# Altium footprint library CurrentMonitor.PcbLib: 1 footprints
Each footprint in its own frame and in the unit in brackets; x right, y up, seen from the top. Pads: shape width x height; smd on the part's side, far side on the other; paste and mask are expansions set on the pad; w line width, h text height; cw(c..) or ccw(c..) is an arc to the next point about the centre after c.
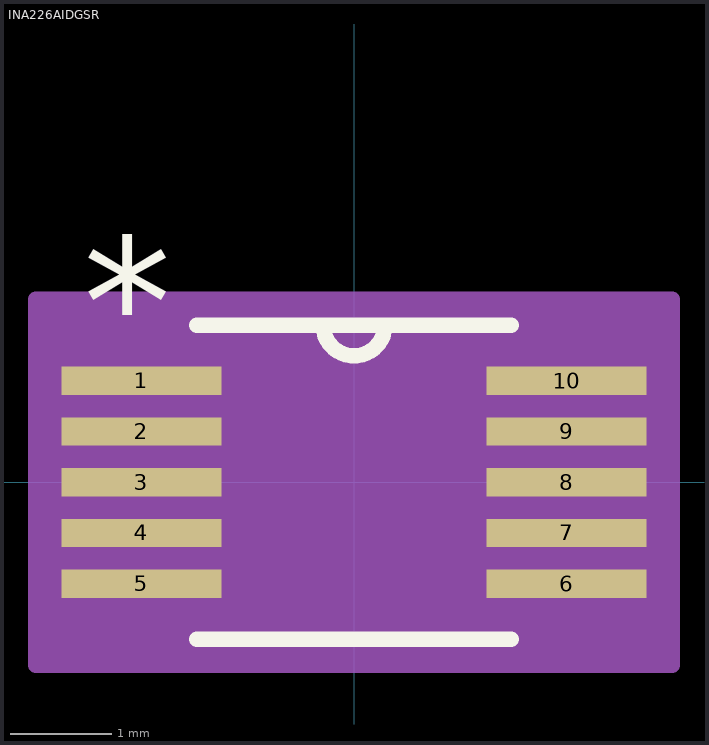
[diagram p0: the footprint, top view; thin cyan lines are the x and y axes]

## INA226AIDGSR [mil]
pads (10):
  rect 62x11 smd paste-31 mask-31: 1(-82.5,39.37) 2(-82.5,19.68) 3(-82.5,0) 4(-82.5,-19.68) 5(-82.5,-39.37) 6(82.5,-39.37) 7(82.5,-19.68) 8(82.5,0) 9(82.5,19.68) 10(82.5,39.37)
Top Overlay:
  lines w6: -61,-61 61,-61 ; -61,61 61,61 ; -12,61 ccw(c0,61) 12,61
  text "*" at -105,45.37 h50
Mechanical 13:
  lines w1: -12,61 ccw(c0,61) 12,61 ; -99.5,-44.87 -61,-44.87 -61,-33.87 -99.5,-33.87 -99.5,-44.87 ; -99.5,-25.18 -61,-25.18 -61,-14.19 -99.5,-14.19 -99.5,-25.18 ; -99.5,-5.5 -61,-5.5 -61,5.5 -99.5,5.5 -99.5,-5.5 ; -99.5,14.19 -61,14.19 -61,25.18 -99.5,25.18 -99.5,14.19 ; -99.5,33.87 -61,33.87 -61,44.87 -99.5,44.87 -99.5,33.87 ; -61,-61 -61,61 61,61 61,-61 -61,-61 ; 61,-44.87 99.5,-44.87 99.5,-33.87 61,-33.87 61,-44.87 ; 61,-25.18 99.5,-25.18 99.5,-14.19 61,-14.19 61,-25.18 ; 61,-5.5 99.5,-5.5 99.5,5.5 61,5.5 61,-5.5 ; 61,14.19 99.5,14.19 99.5,25.18 61,25.18 61,14.19 ; 61,33.87 99.5,33.87 99.5,44.87 61,44.87 61,33.87
  text "*" at -105,45.37 h50
Mechanical 15:
  region: 123.5,-71 -123.5,-71 -123.5,71 123.5,71
  lines w6: -123.5,-71 123.5,-71 123.5,71 -123.5,71 -123.5,-71
3D body "DGS10.step": height 43.11, standoff 0, extent -99.49,-60.98 99.49,60.98